# Altium footprint library WCAP-FTY2.PcbLib: 9 footprints
Each footprint in its own frame and in the unit in brackets; x right, y up, seen from the top. Pads: shape width x height; smd on the part's side, far side on the other; paste and mask are expansions set on the pad; w line width, h text height; cw(c..) or ccw(c..) is an arc to the next point about the centre after c.
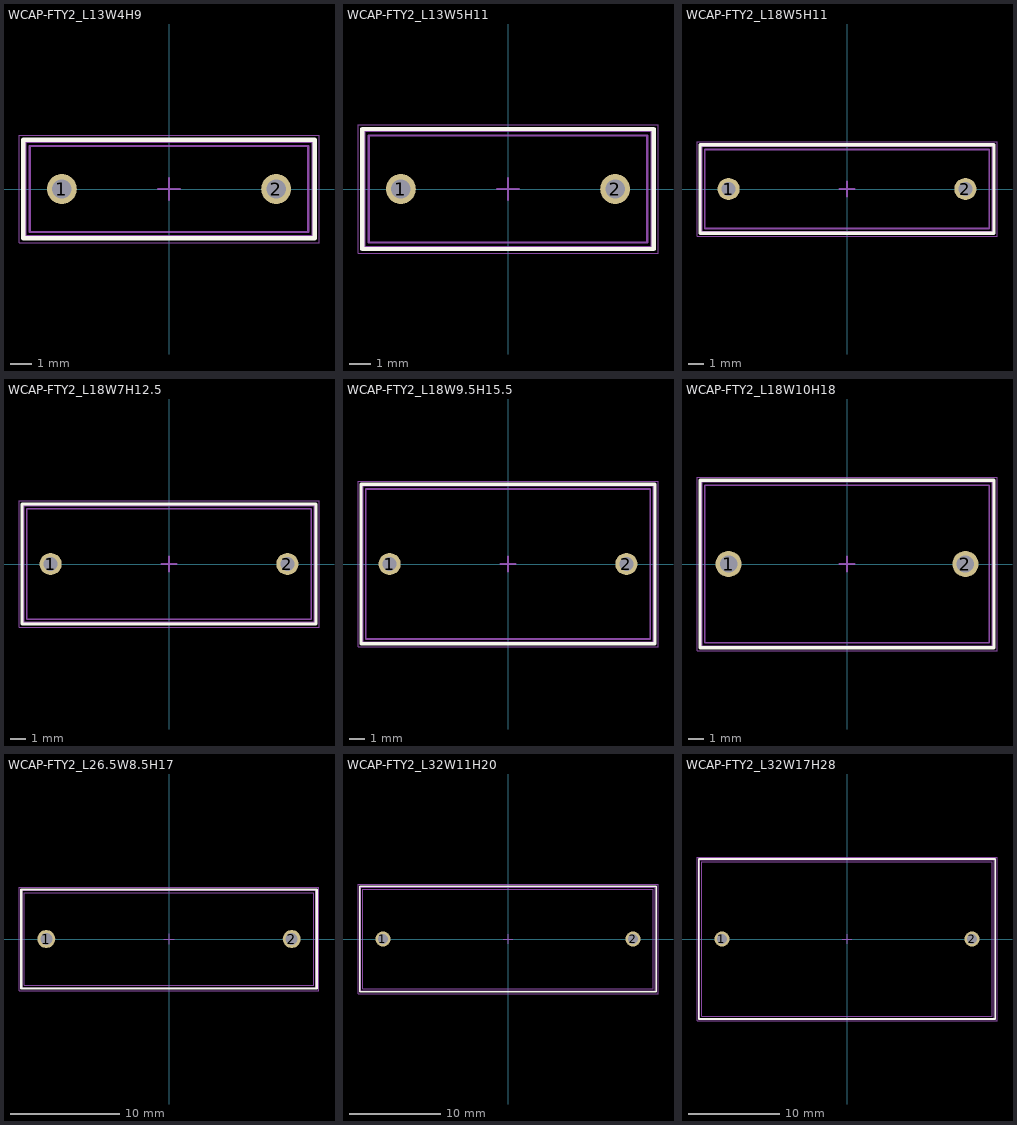
[diagram p0: the footprints below, top view; thin cyan lines are the x and y axes]

## WCAP-FTY2_L13W4H9 [mm] "Film Capacitor, THT, body 13.00 x 4.00 mm"
height 9
pads (2):
  round 1.4 hole 0.9: 1(-5,0) 2(5,0)
Top Overlay:
  lines w0.2: -6.8,-2.3 -6.8,2.3 6.8,2.3 6.8,-2.3 -6.8,-2.3
Top Assembly:
  lines w0.1: -6.7,-2.2 -6.7,2.2 6.7,2.2 6.7,-2.2 -6.7,-2.2
Top Designator:
  text ".Designator" at -3.647,-0.357 h1
Top 3D Body:
  lines w0.1: -6.5,-2 -6.5,2 6.5,2 6.5,-2 -6.5,-2
Top Courtyard:
  lines w0.05: -7,-2.5 -7,2.5 7,2.5 7,-2.5 -7,-2.5
Top Component Center:
  lines w0.1: -0.5,0 0.5,0 ; 0,-0.5 0,0.5
3D body "10x13x4x9.stp": height 9.17, standoff -3.83, extent -6.5,-2 6.5,2

## WCAP-FTY2_L13W5H11 [mm] "Film Capacitor, THT, body 13.00 x 5.00 mm"
height 11
pads (2):
  round 1.4 hole 0.9: 1(-5,0) 2(5,0)
Top Overlay:
  lines w0.2: -6.8,-2.8 -6.8,2.8 6.8,2.8 6.8,-2.8 -6.8,-2.8
Top Assembly:
  lines w0.1: -6.7,-2.7 -6.7,2.7 6.7,2.7 6.7,-2.7 -6.7,-2.7
Top Designator:
  text ".Designator" at -3.647,-0.357 h1
Top 3D Body:
  lines w0.1: -6.5,-2.5 -6.5,2.5 6.5,2.5 6.5,-2.5 -6.5,-2.5
Top Courtyard:
  lines w0.05: -7,-3 7,-3 7,3 -7,3 -7,-3
Top Component Center:
  lines w0.1: -0.5,0 0.5,0 ; 0,-0.5 0,0.5
3D body "10x13x5x11.stp": height 11.17, standoff -3.83, extent -6.5,-2.5 6.5,2.5

## WCAP-FTY2_L18W5H11 [mm] "Film Capacitor, THT, body 18.00 x 5.00 mm"
height 11
pads (2):
  round 1.4 hole 0.9: 1(-7.5,0) 2(7.5,0)
Top Overlay:
  lines w0.2: -9.3,-2.8 -9.3,2.8 9.3,2.8 9.3,-2.8 -9.3,-2.8
Top Assembly:
  lines w0.1: -9.2,-2.7 -9.2,2.7 9.2,2.7 9.2,-2.7 -9.2,-2.7
Top Designator:
  text ".Designator" at -3.647,-0.357 h1
Top 3D Body:
  lines w0.1: -9,-2.5 -9,2.5 9,2.5 9,-2.5 -9,-2.5
Top Courtyard:
  lines w0.05: -9.5,-3 -9.5,3 9.5,3 9.5,-3 -9.5,-3
Top Component Center:
  lines w0.1: -0.5,0 0.5,0 ; 0,-0.5 0,0.5
3D body "15x18x5x11.stp": height 11.17, standoff -3.83, extent -9,-2.5 9,2.5

## WCAP-FTY2_L18W7H12.5 [mm] "Film Capacitor, THT, body 18.00 x 7.00 mm"
height 12.5
pads (2):
  round 1.4 hole 0.9: 1(-7.5,0) 2(7.5,0)
Top Overlay:
  lines w0.2: -9.3,-3.8 9.3,-3.8 9.3,3.8 -9.3,3.8 -9.3,-3.8
Top Assembly:
  lines w0.1: -9.2,-3.7 9.2,-3.7 9.2,3.7 -9.2,3.7 -9.2,-3.7
Top Designator:
  text ".Designator" at -3.647,-0.357 h1
Top 3D Body:
  lines w0.1: -9,-3.5 9,-3.5 9,3.5 -9,3.5 -9,-3.5
Top Courtyard:
  lines w0.05: -9.5,-4 -9.5,4 9.5,4 9.5,-4 -9.5,-4
Top Component Center:
  lines w0.1: -0.5,0 0.5,0 ; 0,-0.5 0,0.5
3D body "15x18x7x12,5.stp": height 12.62, standoff -3.88, extent -9,-3.5 9,3.5

## WCAP-FTY2_L18W9.5H15.5 [mm] "Film Capacitor, THT, body 18.00 x 9.50 mm"
height 15.5
pads (2):
  round 1.4 hole 0.9: 1(-7.5,0) 2(7.5,0)
Top Overlay:
  lines w0.2: -9.3,-5.05 -9.3,5.05 9.3,5.05 9.3,-5.05 -9.3,-5.05
Top Assembly:
  lines w0.1: -9.2,-4.95 -9.2,4.95 9.2,4.95 9.2,-4.95 -9.2,-4.95
Top Designator:
  text ".Designator" at -3.647,-0.357 h1
Top 3D Body:
  lines w0.1: -9,-4.75 -9,4.75 9,4.75 9,-4.75 -9,-4.75
Top Courtyard:
  lines w0.05: -9.5,-5.25 9.5,-5.25 9.5,5.25 -9.5,5.25 -9.5,-5.25
Top Component Center:
  lines w0.1: -0.5,0 0.5,0 ; 0,-0.5 0,0.5
3D body "15x18x9,5x15,5.stp": height 15.62, standoff -3.88, extent -9,-4.75 9,4.75

## WCAP-FTY2_L18W10H18 [mm] "Film Capacitor, THT, body 18.00 x 10.00 mm"
height 18
pads (2):
  round 1.65 hole 1.1: 1(-7.5,0) 2(7.5,0)
Top Overlay:
  lines w0.2: -9.3,-5.3 -9.3,5.3 9.3,5.3 9.3,-5.3 -9.3,-5.3
Top Assembly:
  lines w0.1: -9.2,-5.2 -9.2,5.2 9.2,5.2 9.2,-5.2 -9.2,-5.2
Top Designator:
  text ".Designator" at -3.647,-0.357 h1
Top 3D Body:
  lines w0.1: -9,-5 -9,5 9,5 9,-5 -9,-5
Top Courtyard:
  lines w0.05: -9.5,-5.5 9.5,-5.5 9.5,5.5 -9.5,5.5 -9.5,-5.5
Top Component Center:
  lines w0.1: -0.5,0 0.5,0 ; 0,-0.5 0,0.5
3D body "15x18x10x18.stp": height 18.17, standoff -3.83, extent -9,-5 9,5

## WCAP-FTY2_L26.5W8.5H17 [mm] "Film Capacitor, THT, body 26.50 x 8.50 mm"
height 17
pads (2):
  round 1.65 hole 1.1: 1(-11.25,0) 2(11.25,0)
Top Overlay:
  lines w0.2: -13.55,-4.55 13.55,-4.55 13.55,4.55 -13.55,4.55 -13.55,-4.55
Top Assembly:
  lines w0.1: -13.45,-4.45 13.45,-4.45 13.45,4.45 -13.45,4.45 -13.45,-4.45
Top Designator:
  text ".Designator" at -3.647,-0.357 h1
Top 3D Body:
  lines w0.1: -13.25,-4.25 13.25,-4.25 13.25,4.25 -13.25,4.25 -13.25,-4.25
Top Courtyard:
  lines w0.05: -13.75,-4.75 13.75,-4.75 13.75,4.75 -13.75,4.75 -13.75,-4.75
Top Component Center:
  lines w0.1: -0.5,0 0.5,0 ; 0,-0.5 0,0.5
3D body "22,5x26,5x8,5x17.stp": height 17.17, standoff -3.83, extent -13.25,-4.25 13.25,4.25

## WCAP-FTY2_L32W11H20 [mm] "Film Capacitor, THT, body 32.00 x 11.00 mm"
height 20
pads (2):
  round 1.65 hole 1.1: 1(-13.75,0) 2(13.75,0)
Top Overlay:
  lines w0.2: -16.3,-5.8 16.3,-5.8 16.3,5.8 -16.3,5.8 -16.3,-5.8
Top Assembly:
  lines w0.1: -16.2,-5.7 16.2,-5.7 16.2,5.7 -16.2,5.7 -16.2,-5.7
Top Designator:
  text ".Designator" at -3.647,-0.357 h1
Top 3D Body:
  lines w0.1: -16,-5.5 16,-5.5 16,5.5 -16,5.5 -16,-5.5
Top Courtyard:
  lines w0.05: -16.5,-6 16.5,-6 16.5,6 -16.5,6 -16.5,-6
Top Component Center:
  lines w0.1: -0.5,0 0.5,0 ; 0,-0.5 0,0.5
3D body "27,5x32x11x20.stp": height 20.17, standoff -3.83, extent -16,-5.5 16,5.5

## WCAP-FTY2_L32W17H28 [mm] "Film Capacitor, THT, body 32.00 x 17.00 mm"
height 28
pads (2):
  round 1.65 hole 1.1: 1(-13.75,0) 2(13.75,0)
Top Overlay:
  lines w0.2: -16.3,-8.8 16.3,-8.8 16.3,8.8 -16.3,8.8 -16.3,-8.8
Top Assembly:
  lines w0.1: -16.2,-8.7 16.2,-8.7 16.2,8.7 -16.2,8.7 -16.2,-8.7
Top Designator:
  text ".Designator" at -3.647,-0.357 h1
Top 3D Body:
  lines w0.1: -16,-8.5 16,-8.5 16,8.5 -16,8.5 -16,-8.5
Top Courtyard:
  lines w0.05: -16.5,-9 16.5,-9 16.5,9 -16.5,9 -16.5,-9
Top Component Center:
  lines w0.1: -0.5,0 0.5,0 ; 0,-0.5 0,0.5
3D body "27,5x32x17x28.stp": height 28.17, standoff -3.83, extent -16,-8.5 16,8.5